# EAGLE library part P8X32A-M44 (library parallax_propeller)
Parallax Propeller P8X32A-M44 44 Pin QFN 32-bit Microprocessor http://www.parallax.com/propeller/
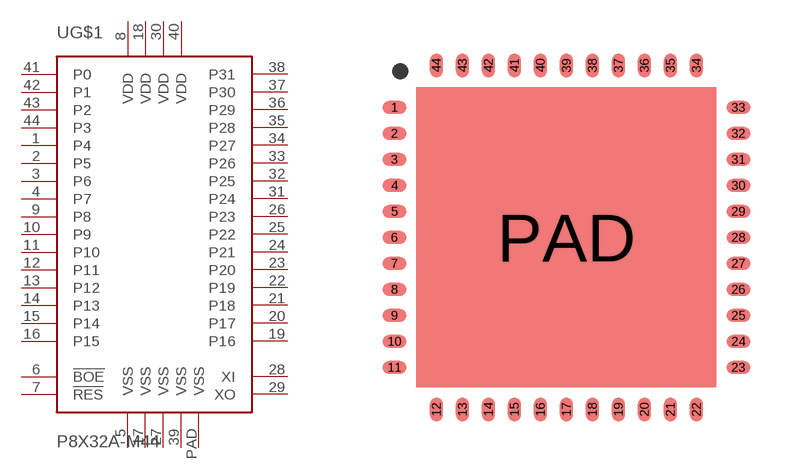
[diagram p2: symbol with the pads of QFN-44; footprint QFN-44]

Designator prefix -; gates G$1=P8X32A G$2=VDD G$3=VDD G$4=VDD G$5=VDD G$6=VSS G$7=VSS G$8=VSS G$9=VSS G$10=VSS

## P8X32A-M44  [QFN-44]
1  G$1:P4
2  G$1:P5
3  G$1:P6
4  G$1:P7
5  G$6:VSS  in
6  G$1:!BOE  in
7  G$1:!RES
8  G$2:VDD  in
9  G$1:P8
10  G$1:P9
11  G$1:P10
12  G$1:P11
13  G$1:P12
14  G$1:P13
15  G$1:P14
16  G$1:P15
17  G$7:VSS  in
18  G$3:VDD  in
19  G$1:P16
20  G$1:P17
21  G$1:P18
22  G$1:P19
23  G$1:P20
24  G$1:P21
25  G$1:P22
26  G$1:P23
27  G$8:VSS  in
28  G$1:XI  in
29  G$1:XO  out
30  G$4:VDD  in
31  G$1:P24
32  G$1:P25
33  G$1:P26
34  G$1:P27
35  G$1:P28
36  G$1:P29
37  G$1:P30
38  G$1:P31
39  G$9:VSS  in
40  G$5:VDD  in
41  G$1:P0
42  G$1:P1
43  G$1:P2
44  G$1:P3
PAD  G$10:VSS  in

## Footprint QFN-44 (pad centres in mm)
QFN
smd 0.6 x 0.33: 1 -4.3,3.25; 2 -4.3,2.6; 3 -4.3,1.95; 4 -4.3,1.3; 5 -4.3,0.65; 6 -4.3,0; 7 -4.3,-0.65; 8 -4.3,-1.3; 9 -4.3,-1.95; 10 -4.3,-2.6; 11 -4.3,-3.25; 23 4.3,-3.25; 24 4.3,-2.6; 25 4.3,-1.95; 26 4.3,-1.3; 27 4.3,-0.65; 28 4.3,0; 29 4.3,0.65; 30 4.3,1.3; 31 4.3,1.95; 32 4.3,2.6; 33 4.3,3.25
smd 0.33 x 0.6: 12 -3.25,-4.3; 13 -2.6,-4.3; 14 -1.95,-4.3; 15 -1.3,-4.3; 16 -0.65,-4.3; 17 0,-4.3; 18 0.65,-4.3; 19 1.3,-4.3; 20 1.95,-4.3; 21 2.6,-4.3; 22 3.25,-4.3; 34 3.25,4.3; 35 2.6,4.3; 36 1.95,4.3; 37 1.3,4.3; 38 0.65,4.3; 39 0,4.3; 40 -0.65,4.3; 41 -1.3,4.3; 42 -1.95,4.3; 43 -2.6,4.3; 44 -3.25,4.3
smd 7.5 x 7.5: PAD 0,0